# Altium schematic symbol library Components.SchLib: 44 symbols
Pins are listed as number, name and electrical type; pins without a type are passive.

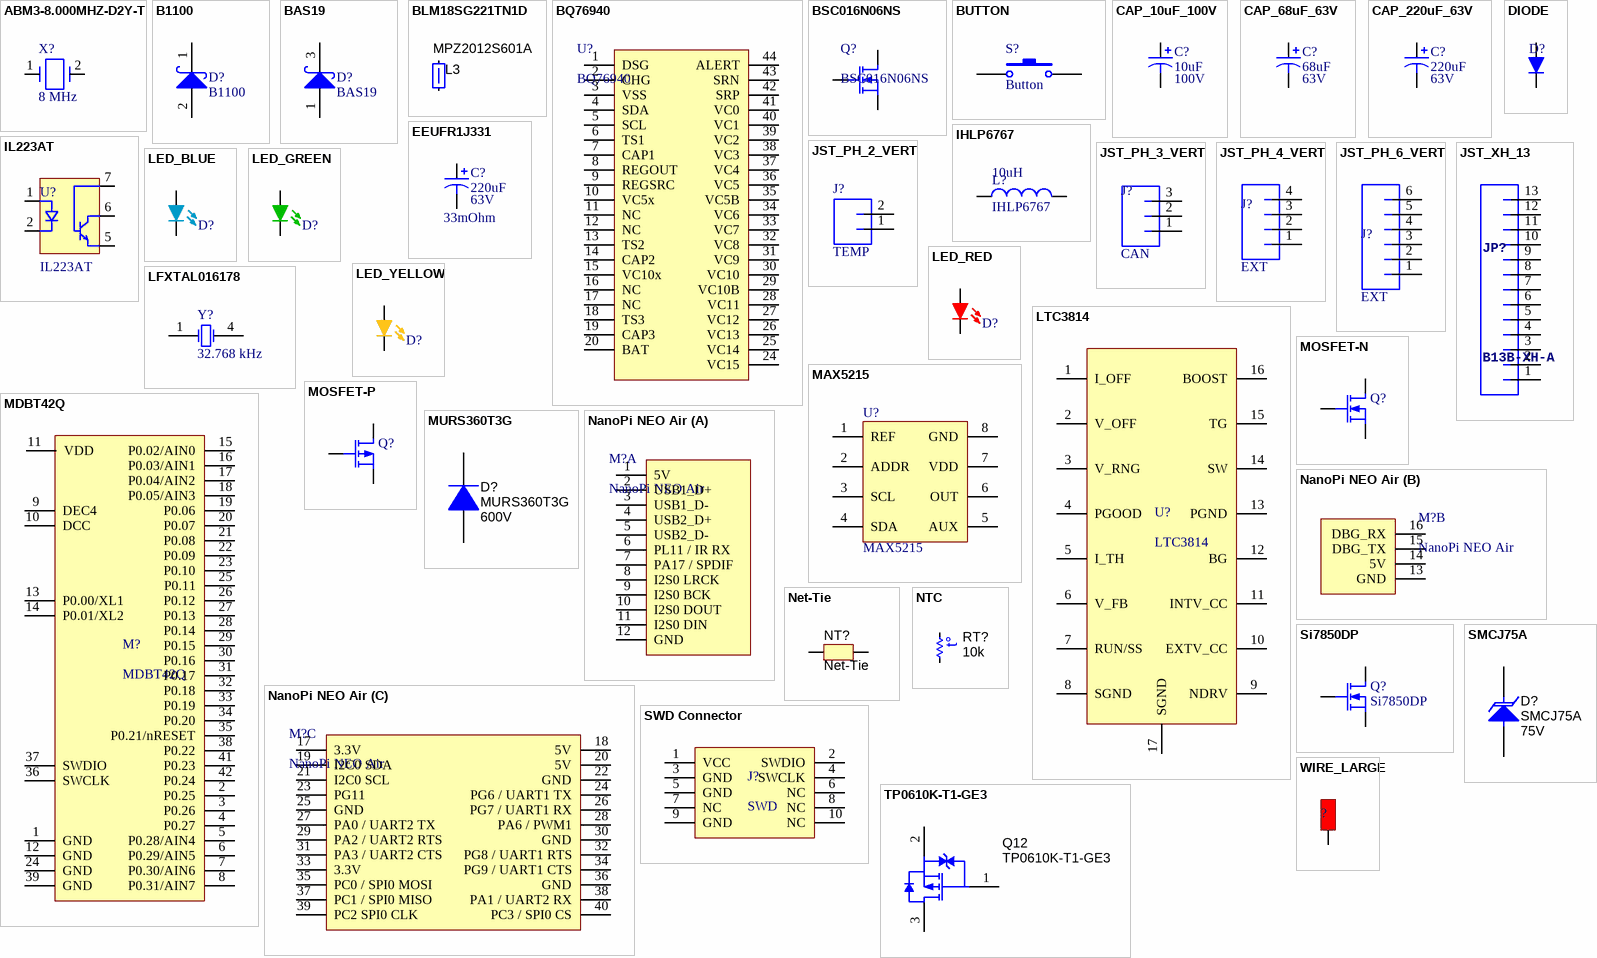
[diagram p0: symbols ABM3-8.000MHZ-D2Y-T to WIRE_LARGE]

## ABM3-8.000MHZ-D2Y-T
designator X?, comment 8 MHz
8MHZ, 18PF, 5 X 3.2MM; Brand: ABRACON; Brand Number: ABM3-8.000MHZ-D2Y-T; Order Code Supplier: 2101329; Price: 0,90; Supplier: Farnell
footprint XTAL150SMD_125X196
pins: 1, 2

## B1100
designator D?
footprint SMA (SMA, 2-Leads, Body 4.57x3.94mm)
pins: 1 K, 2 A

## BAS19
designator D?
General purpose diode
footprint SOT23-3
pins: 1 A, 3 K

## BLM18SG221TN1D
designator L3, comment MPZ2012S601A
Ferrite Bead; PartNumber: BLM18SG221TN1D; Manufacturer: MuRata; Imax_A: 2.5; DCR_ohm: 0.04; Value1: 0.04 ohm; Value2: 2.5A; ZTyp@100MHz_Ohm: 220; Value: 220 ohm; CompType: Ferrite Bead; SymbolVersion: 2009-06-02; MountType: SMT; PackageReference: 0603; Published: 2014-04-30; Publisher: Texas Instruments; LatestRevisionDate: 2015-05-26; ComponentLink1Description: Datasheet link; ComponentLink1URL: http://search.murata.co.jp/Ceramy/image/img/PDF/ENG/L0110S0100BLM18S.pdf; RoHS: Y; Supplier 1: Digi-Key; Supplier Part Number 1: 490-5225-1-ND; Supplier 2: Mouser; Supplier Part Number 2: 81-BLM18SG221TN1D; Supplier 3: Farnell; Supplier Part Number 3: 1515753
footprint SMD-0805-RES
pins: 1, 2

## BQ76940
designator U?
footprint TSSOP44
pins: 1 DSG, 2 CHG, 3 VSS, 4 SDA, 5 SCL, 6 TS1, 7 CAP1, 8 REGOUT, 9 REGSRC, 10 VC5x, 11 NC, 12 NC, 13 TS2, 14 CAP2, 15 VC10x, 16 NC, 17 NC, 18 TS3, 19 CAP3, 20 BAT, 24 VC15, 25 VC14, 26 VC13, 27 VC12, 28 VC11, 29 VC10B, 30 VC10, 31 VC9, 32 VC8, 33 VC7, 34 VC6, 35 VC5B, 36 VC5, 37 VC4, 38 VC3, 39 VC2, 40 VC1, 41 VC0, 42 SRP, 43 SRN, 44 ALERT

## BSC016N06NS
designator Q?
N-Channel MOSFET
footprint PowerPAK SO-8 Single
pins: 1 G, 2 D, 3 S

## BUTTON
designator S?, comment Button
Push Button; Published: 24-Mar-1999; LatestRevisionDate: 17-Jul-2002; LatestRevisionNote: Re-released for DXP Platform.; PackageReference: SPST-2; Publisher: Altium Limited; PackageDescription: Switch; 2 Leads
footprint BUTTON; pin to pad 2>3
pins: 1, 2

## CAP_10uF_100V
designator C?, comment value 10uF  Voltage: 100V  (hidden comment: 10uF 100V)
Manufacturer Part No: UPW2A100MED1TD; Manufacturer: Nichicon
footprint CAP-ELECTROLYTIC 6.3MM
pins: 1, 2

## CAP_68uF_63V
designator C?, comment value 68uF  Voltage: 63V  (hidden comment: 68uF 63V)
Manufacturer Part No: UPW1J680MPD1TD; Manufacturer: Nichicon
footprint CAP-ELECTROLYTIC 8MM
pins: 1, 2

## CAP_220uF_63V
designator C?, comment value 220uF  Voltage: 63V  (hidden comment: 220uF 63V)
Manufacturer Part No: UPW1J221MPD1TD; Manufacturer: Nichicon
footprint CAP-ELECTROLYTIC 10mm
pins: 1, 2

## DIODE
designator D?  (value not drawn)
Diode
footprint SOD-323 (SODFL, 2-Leads, Body 1.30x2.57mm, IPC Medium Density)
pins: 1 K, 2 A

## EEUFR1J331
designator C?, comment value 220uF  Voltage: 63V  ESR: 33mOhm  (hidden comment: 220uF 63V 33mOhm)
Manufacturer Part No: EEUFR1J331; Manufacturer: Panasonic
footprint CAP-ELECTROLYTIC 12.5mm
pins: 1, 2

## IHLP6767
designator L?  value 10uH
Inductor; Code_IEC: 1005; Published: 8-Jun-2000; LatestRevisionDate: 29-May-2009; LatestRevisionNote: IPC-7351 Footprint Added.; PackageReference: 0402-A; Publisher: Altium Limited; PackageDescription: Chip Inductor; Code_JEITA: 0402
footprint IHLP-6767GZ
pins: 1, 2

## IL223AT
designator U?
Optocoupler
footprint SOIC-8 (SOIC, 8-Leads, Body 4.9x3.9mm, Pitch 1.27mm)
pins: 1 A, 2 K, 5 E, 6 C, 7 B

## JST_PH_2_VERT
designator J?, comment TEMP
Manufacturer: JST Sales America, Inc.; PartNumber: B2B-PH-K-S(LF)(SN); Mounting Technology: Through Hole; PackageReference: JST-PH
footprint JST-2-PTH-VERT
pins: 1, 2

## JST_PH_3_VERT
designator J?, comment CAN
Manufacturer: JST Sales America, Inc.; Mounting Technology: Through Hole; PackageReference: JST-PH
footprint JST B3B-PH-K
pins: 1, 2, 3

## JST_PH_4_VERT
designator J?, comment EXT
Manufacturer: JST Sales America, Inc.; Mounting Technology: Through Hole; PackageReference: JST-PH
footprint JST B4B-PH-K
pins: 1, 2, 3, 4

## JST_PH_6_VERT
designator J?, comment EXT
Manufacturer: JST Sales America, Inc.; Mounting Technology: Through Hole; PackageReference: JST-PH
footprint JST B6B-PH-K
pins: 1, 2, 3, 4, 5, 6

## JST_XH_13
designator JP?, comment B13B-XH-A
footprint JST-13-PTH-VERT
pins: 1, 2, 3, 4, 5, 6, 7, 8, 9, 10, 11, 12, 13

## LED_BLUE
designator D?, comment LED  (value not drawn)
PartNumber: LTST-C193TGKT-5A; Manufacturer: Lite-On Inc.; PackageReference: 0603; PackageDescription: 0603 (1608 Metric); Mounting Technology: Surface Mount
footprint LED0603
pins: A, C

## LED_GREEN
designator D?, comment LED  (value not drawn)
PartNumber: LTST-C193TGKT-5A; Manufacturer: Lite-On Inc.; PackageReference: 0603; PackageDescription: 0603 (1608 Metric); Mounting Technology: Surface Mount
footprint LED0603
pins: A, C

## LED_RED
designator D?, comment LED  (value not drawn)
PartNumber: LTST-C193TGKT-5A; Manufacturer: Lite-On Inc.; PackageReference: 0603; PackageDescription: 0603 (1608 Metric); Mounting Technology: Surface Mount
footprint LED0603
pins: A, C

## LED_YELLOW
designator D?, comment LED  (value not drawn)
PartNumber: LTST-C193TGKT-5A; Manufacturer: Lite-On Inc.; PackageReference: 0603; PackageDescription: 0603 (1608 Metric); Mounting Technology: Surface Mount
footprint LED0603
pins: A, C

## LFXTAL016178
designator Y?, comment 32.768 kHz
Crystal, 32.768 kHz; Published: 8-Jun-2000; LatestRevisionDate: 17-Jul-2002; LatestRevisionNote: Re-released for DXP Platform.; PackageReference: R38; Publisher: Altium Limited; PackageDescription: Crystal, Thru-Hole; 2 Leads; Body 3.1 x 8.2 mm (Dia.xH)
footprint LFXTAL (SMD Crystal)
pins: 1 OSC1, 4 OSC2

## LTC3814
designator U?
LTC3814EFE-5#PBF; Manufacturer: Linear Technology; Manufacturer Part No:: LTC3814EFE-5#PBF
footprint LTC3814
pins: 1 I_OFF, 2 V_OFF, 3 V_RNG, 4 PGOOD, 5 I_TH, 6 V_FB, 7 RUN/SS, 8 SGND, 9 NDRV, 10 EXTV_CC, 11 INTV_CC, 12 BG, 13 PGND, 14 SW, 15 TG, 16 BOOST, 17 SGND

## MAX5215
designator U?
14 Bit Digital to Analog Converter; PartNumber: MAX5215GUA+; Manufacturer: Maxim Integrated; Mounting Technology: Surface Mount; PackageReference: MSOP-8
footprint MSOP-8 (SOP, 8-Leads, Body 3x3mm, Pitch 0.65mm, IPC Medium Density)
pins: 1 REF, 2 ADDR, 3 SCL, 4 SDA, 5 AUX, 6 OUT, 7 VDD (power), 8 GND (power)

## MDBT42Q
designator M?
nRF52832 module
footprint MDBT42Q (nRF52832 module)
pins: 1 GND, 2 P0.25, 3 P0.26, 4 P0.27, 5 P0.28/AIN4, 6 P0.29/AIN5, 7 P0.30/AIN6, 8 P0.31/AIN7, 9 DEC4, 10 DCC, 11 VDD, 12 GND, 13 P0.00/XL1, 14 P0.01/XL2, 15 P0.02/AIN0, 16 P0.03/AIN1, 17 P0.04/AIN2, 18 P0.05/AIN3, 19 P0.06, 20 P0.07, 21 P0.08, 22 P0.09, 23 P0.10, 24 GND, 25 P0.11, 26 P0.12, 27 P0.13, 28 P0.14, 29 P0.15, 30 P0.16, 31 P0.17, 32 P0.18, 33 P0.19, 34 P0.20, 35 P0.21/nRESET, 36 SWCLK, 37 SWDIO, 38 P0.22, 39 GND, 41 P0.23, 42 P0.24

## MOSFET-N
designator Q?  (value not drawn)
N-Channel MOSFET; Published: 8-Jun-2000; LatestRevisionDate: 17-Jul-2002; LatestRevisionNote: Re-released for DXP Platform.; PackageVersion: 1995/1996; PackageReference: E3; Publisher: Altium Limited; PackageDescription: TO, Flat Index; 3 In-Line, Axial Leads; Body Dia. 4.6mm; Lead Dia. 0.5 mm (max)
footprint SOT23-3
pins: 1 G, 2 S, 3 D

## MOSFET-P
designator Q?  (value not drawn)
P-Channel MOSFET; Published: 8-Jun-2000; LatestRevisionDate: 17-Jul-2002; LatestRevisionNote: Re-released for DXP Platform.; PackageVersion: 1995/1996; PackageReference: E3; Publisher: Altium Limited; PackageDescription: TO, Flat Index; 3 In-Line, Axial Leads; Body Dia. 4.6mm; Lead Dia. 0.5 mm (max)
footprint SOT23-3
pins: 1 G, 2 D, 3 S

## MURS360T3G
designator D?  value 600V
Diode, Ultrafast, 600V, 3A, SMC; Manufacturer: ON Semiconductor; U/M: EA; Vf_V: 1.25; Io_A: 3; Vr_V: 600; Value2: 1.25V; TJmax_C: 175; RJC_CperW: 11; CompType: Diode; PartNumber: MURS360T3G; SymbolVersion: 2008-12-08; MountType: SMT; RoHS: Y; PackageReference: SMC; Value1: 3A; Type: Ultrafast; Published: 2008-06-26; Publisher: Texas Instruments; LatestRevisionDate: 2014-01-16; ComponentLink1Description: Datasheet link; ComponentLink1URL: http://www.onsemi.com/pub/Collateral/MURS320T3-D.PDF; Supplier 1: Digi-Key; Supplier Part Number 1: MURS360T3GOSCT-ND; Supplier 2: Mouser; Supplier Part Number 2: 863-MURS360T3G; Supplier 3: Farnell; Supplier Part Number 3: 1459153
footprint SMC (Molded Diode, 2-Leads, Body 6.9x5.8mm, IPC Medium Density, based on OnSemi component dimensions and land patterns)
pins: 1 K, 2 A

## NanoPi NEO Air
designator M?
footprint NanoPi NEO Air
part A pins: 1 5V, 2 USB1_D+, 3 USB1_D-, 4 USB2_D+, 5 USB2_D-, 6 PL11 / IR RX, 7 PA17 / SPDIF, 8 I2S0 LRCK, 9 I2S0 BCK, 10 I2S0 DOUT, 11 I2S0 DIN, 12 GND
part B pins: 13 GND, 14 5V, 15 DBG_TX, 16 DBG_RX
part C pins: 17 3.3V, 18 5V, 19 I2C0 SDA, 20 5V, 21 I2C0 SCL, 22 GND, 23 PG11, 24 PG6 / UART1 TX, 25 GND, 26 PG7 / UART1 RX, 27 PA0 / UART2 TX, 28 PA6 / PWM1, 29 PA2 / UART2 RTS, 30 GND, 31 PA3 / UART2 CTS, 32 PG8 / UART1 RTS, 33 3.3V, 34 PG9 / UART1 CTS, 35 PC0 / SPI0 MOSI, 36 GND, 37 PC1 / SPI0 MISO, 38 PA1 / UART2 RX, 39 PC2 SPI0 CLK, 40 PC3 / SPI0 CS

## Net-Tie
designator NT?  (net tie, no BOM)
Single point connection between nets.; SymbolCreator: codlsc; SymbolVersion: 2009-07-01; MountType: SMT; Publisher: Texas Instruments; LatestRevisionDate: 2012-11-28; LatestRevisionNote: Added Alternate PartNumber and Alternate Manufacturer parameters to appropriate components.
footprint Net-Tie_10mil (10mil net tie, no solder mask opening, no solder paste)
pins: 1, 2

## NTC
designator RT?  value 10k  (hidden comment: NTC)
Thermistor NTC, 10.0k ohm, 1%; Manufacturer: SEMITEC Corporation; PartNumber: 103AT-2; Tolerance_%: 1; Power_W: 0.01; TaMin_C: -50; TaMax_C: 110; U/M: EA; ComponentLink1URL: http://www.semitec.co.jp/english2/products/pdf/AT_Thermistor.pdf; PackageReference: Disc, 5x8.4 mm; SymbolVersion: 2008-11-25; ComponentLink1Description: Datasheet link; CompType: ThermistorNTC; Series: AT; MountType: TH; RoHS: Y; Published: 2009-09-22; Publisher: Texas Instruments; LatestRevisionDate: 2013-08-16; Supplier 1: Mouser; Supplier Part Number 1: 954-103AT-2
footprint SMD-0603-RES
pins: 1, 2
text: t°

## Si7850DP
designator Q?
N-Channel MOSFET; Published: 8-Jun-2000; LatestRevisionDate: 17-Jul-2002; LatestRevisionNote: Re-released for DXP Platform.; PackageVersion: 1995/1996; PackageReference: E3; Publisher: Altium Limited; PackageDescription: TO, Flat Index; 3 In-Line, Axial Leads; Body Dia. 4.6mm; Lead Dia. 0.5 mm (max)
footprint PowerPAK SO-8 Single
pins: 1 G, 2 D, 3 S

## SMCJ75A
designator D?  value 75V
Diode, TVS, Uni, 75V, 1500W, SMC; Manufacturer: Fairchild Semiconductor; U/M: EA; Power_W: 1500; Vr_V: 75; CompType: TVS; SymbolVersion: 2012-01-13; PackageReference: SMC; PartNumber: SMCJ75A; RoHS: Y; MountType: SMT; ComponentLink1Description: Datasheet link; ComponentLink1URL: http://www.fairchildsemi.com/ds/SM/SMCJ100A.pdf; Publisher: Texas Instruments; LatestRevisionDate: 2013-10-23; LatestRevisionNote: Updated Supplier Data; Vz_V: N/A; Value1: 1500W; Published: 2008-10-08; Supplier 1: Digi-Key; Supplier Part Number 1: SMCJ75AFSCT-ND; Supplier 2: Mouser; Supplier Part Number 2: 512-SMCJ75A; Supplier 3: Farnell; Supplier Part Number 3: 9822992
footprint SMC (Molded Diode, 2-Leads, Body 6.9x5.8mm, IPC Medium Density, based on OnSemi component dimensions and land patterns)
pins: 1 K, 2 A

## SWD Connector
designator J?, comment SWD
SWD Connector
footprint SWD (SWD Connector)
pins: 1 VCC, 2 SWDIO, 3 GND, 4 SWCLK, 5 GND, 6 NC, 7 NC, 8 NC, 9 GND, 10 NC

## TP0610K-T1-GE3
designator Q12
MOSFET, P-CH, -60 V, -0.185 A, SOT-23; Manufacturer: Vishay-Siliconix; Alternate Manufacturer: None; SymbolCreator: a0411947; U/M: EA; ChType: P; Value: -60V; Value1: 10 ohm; Rdson45_ohm: 10; Value2: 1.7 nC; QgTyp_nC: 1.7; Vgs_V: 20; SymbolVersion: 2013-05-16; PartNumber: TP0610K-T1-GE3; PackageReference: SOT-23; CompType: MOSFET; VdsMax_V: -60; IdsMax_A: -0.185; RoHS: Y; MountType: SMT; Published: 2008-06-19; Publisher: Texas Instruments; LatestRevisionDate: 2015-06-05; LatestRevisionNote: Added parts.; ComponentLink1Description: Datasheet link; ComponentLink1URL: http://www.vishay.com/docs/71411/tp0610k.pdf; Supplier 1: Digi-Key; Supplier Part Number 1: TP0610K-T1-GE3CT-ND; Supplier 2: Mouser; Supplier Part Number 2: 781-TP0610K-T1-GE3; Supplier 3: Farnell; Supplier Part Number 3: 1794816
footprint SOT23-3
pins: 1 G, 2 S, 3 D

## WIRE_LARGE
designator ?  (value not drawn)
footprint WIRE_LARGE
pins: 1

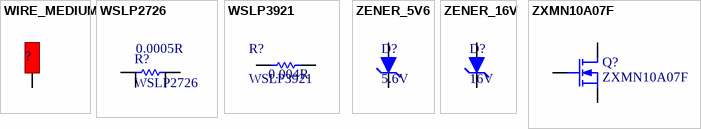
[diagram p1: symbols WIRE_MEDIUM to ZXMN10A07F]

## WIRE_MEDIUM
designator ?  (value not drawn)
footprint WIRE_MEDIUM
pins: 1

## WSLP2726
designator R?  value 0.0005R
Current Sense Resistor, 0.0005R; PartNumber: WSLP2726L5000FEA; Manufacturer: Vishay / Dale; Power: 7W; Tolerance: 1%; PackageReference: 2726; Mounting Technology: Surface Mount
footprint WSL2726
pins: 1, 2, 3, 4

## WSLP3921
designator R?  value 0.004R
footprint WSLP3921 (5W Current Sense Resistor)
pins: 1, 2

## ZENER_5V6
designator D?, comment 5.6V
Zener Diode 5.6V
footprint SOD-323 (SODFL, 2-Leads, Body 1.30x2.57mm, IPC Medium Density)
pins: 1 K, 2 A

## ZENER_16V
designator D?, comment 16V
Zener Diode 16V
footprint SOD-323 (SODFL, 2-Leads, Body 1.30x2.57mm, IPC Medium Density)
pins: 1 K, 2 A

## ZXMN10A07F
designator Q?
N-Channel MOSFET; Published: 8-Jun-2000; LatestRevisionDate: 17-Jul-2002; LatestRevisionNote: Re-released for DXP Platform.; PackageVersion: 1995/1996; PackageReference: E3; Publisher: Altium Limited; PackageDescription: TO, Flat Index; 3 In-Line, Axial Leads; Body Dia. 4.6mm; Lead Dia. 0.5 mm (max)
footprint SOT23-3
pins: 1 G, 2 S, 3 D